# Altium schematic symbol library PROC154E3_SCH_Library.SchLib: 288 symbols (part 3 of 3)
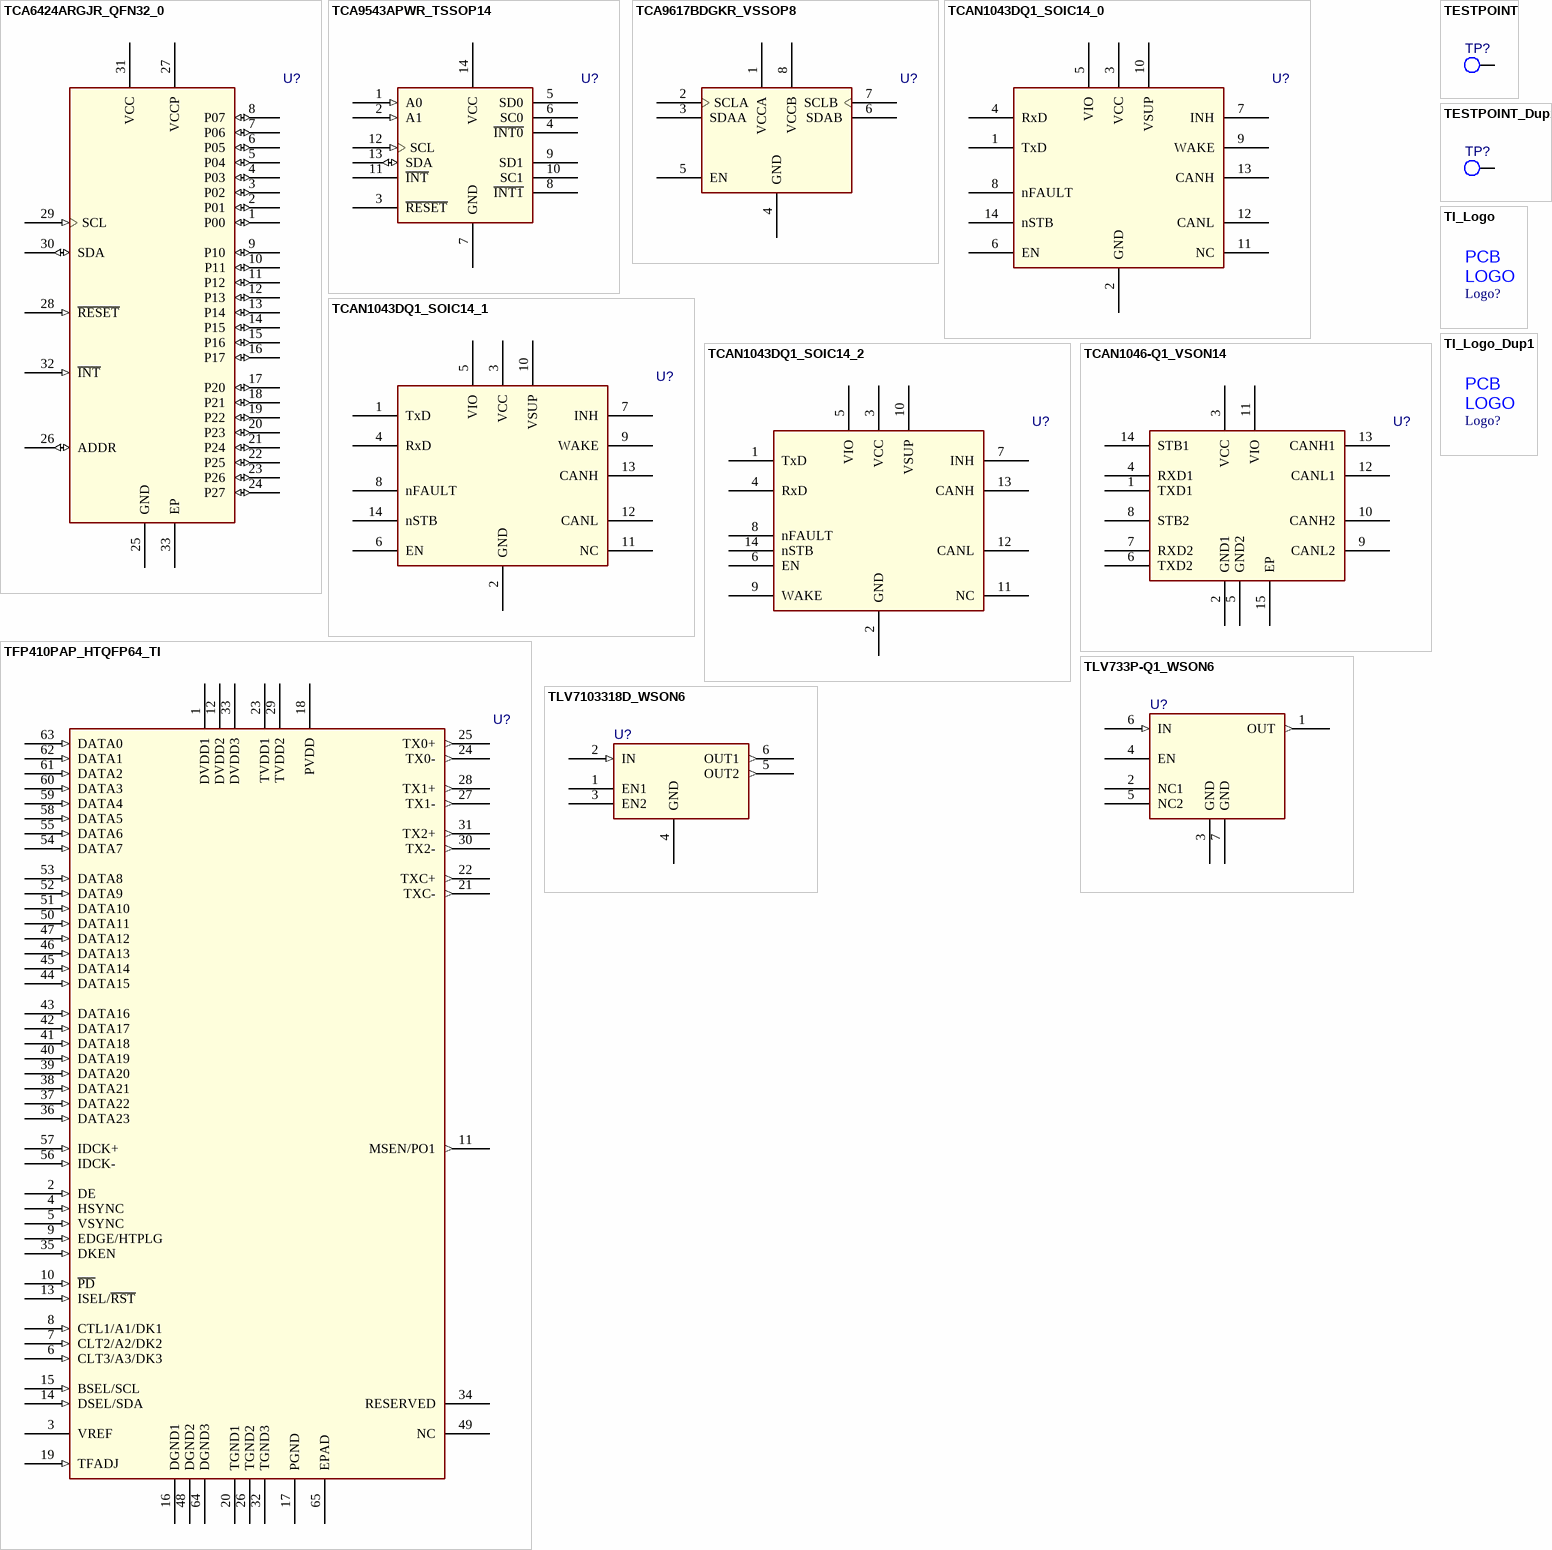
[diagram p26: symbols TCA6424ARGJR_QFN32_0 to TLV7103318D_WSON6]

## TFP410PAP_HTQFP64_TI
designator U?
pins: 1 DVDD1 (power), 2 DE (in), 3 VREF (power), 4 HSYNC (in), 5 VSYNC (in), 6 CLT3/A3/DK3 (in), 7 CLT2/A2/DK2 (in), 8 CTL1/A1/DK1 (in), 9 EDGE/HTPLG (in), 10 ~{PD} (in), 11 MSEN/PO1 (out), 12 DVDD2 (power), 13 ISEL/~{RST} (in), 14 DSEL/SDA (in), 15 BSEL/SCL (in), 16 DGND1 (power), 17 PGND (power), 18 PVDD (power), 19 TFADJ (in), 20 TGND1 (power), 21 TXC- (out), 22 TXC+ (out), 23 TVDD1 (power), 24 TX0- (out), 25 TX0+ (out), 26 TGND2 (power), 27 TX1- (out), 28 TX1+ (out), 29 TVDD2 (power), 30 TX2- (out), 31 TX2+ (out), 32 TGND3 (power), 33 DVDD3 (power), 34 RESERVED, 35 DKEN (in), 36 DATA23 (in), 37 DATA22 (in), 38 DATA21 (in), 39 DATA20 (in), 40 DATA19 (in), 41 DATA18 (in), 42 DATA17 (in), 43 DATA16 (in), 44 DATA15 (in), 45 DATA14 (in), 46 DATA13 (in), 47 DATA12 (in), 48 DGND2 (power), 49 NC, 50 DATA11 (in), 51 DATA10 (in), 52 DATA9 (in), 53 DATA8 (in), 54 DATA7 (in), 55 DATA6 (in), 56 IDCK- (in), 57 IDCK+ (in), 58 DATA5 (in), 59 DATA4 (in), 60 DATA3 (in), 61 DATA2 (in), 62 DATA1 (in), 63 DATA0 (in), 64 DGND3 (power), 65 EPAD (power)

## TI_Logo
designator Logo?  (value not drawn)
footprint TI_Stacked_Overlay_Small
text: PCB; LOGO

## TI_Logo_Dup1
designator Logo?  (value not drawn)
footprint TI_Stacked_Overlay_Small
text: PCB; LOGO

## TLV733P-Q1_WSON6
designator U?
footprint SON6_25-59_85X85_0-8
pins: 1 OUT (out), 2 NC1, 3 GND (power), 4 EN, 5 NC2, 6 IN (in), 7 GND (power)

## TLV7103318D_WSON6
designator U?
pins: 1 EN1, 2 IN (in), 3 EN2, 4 GND (power), 5 OUT2 (out), 6 OUT1 (out)

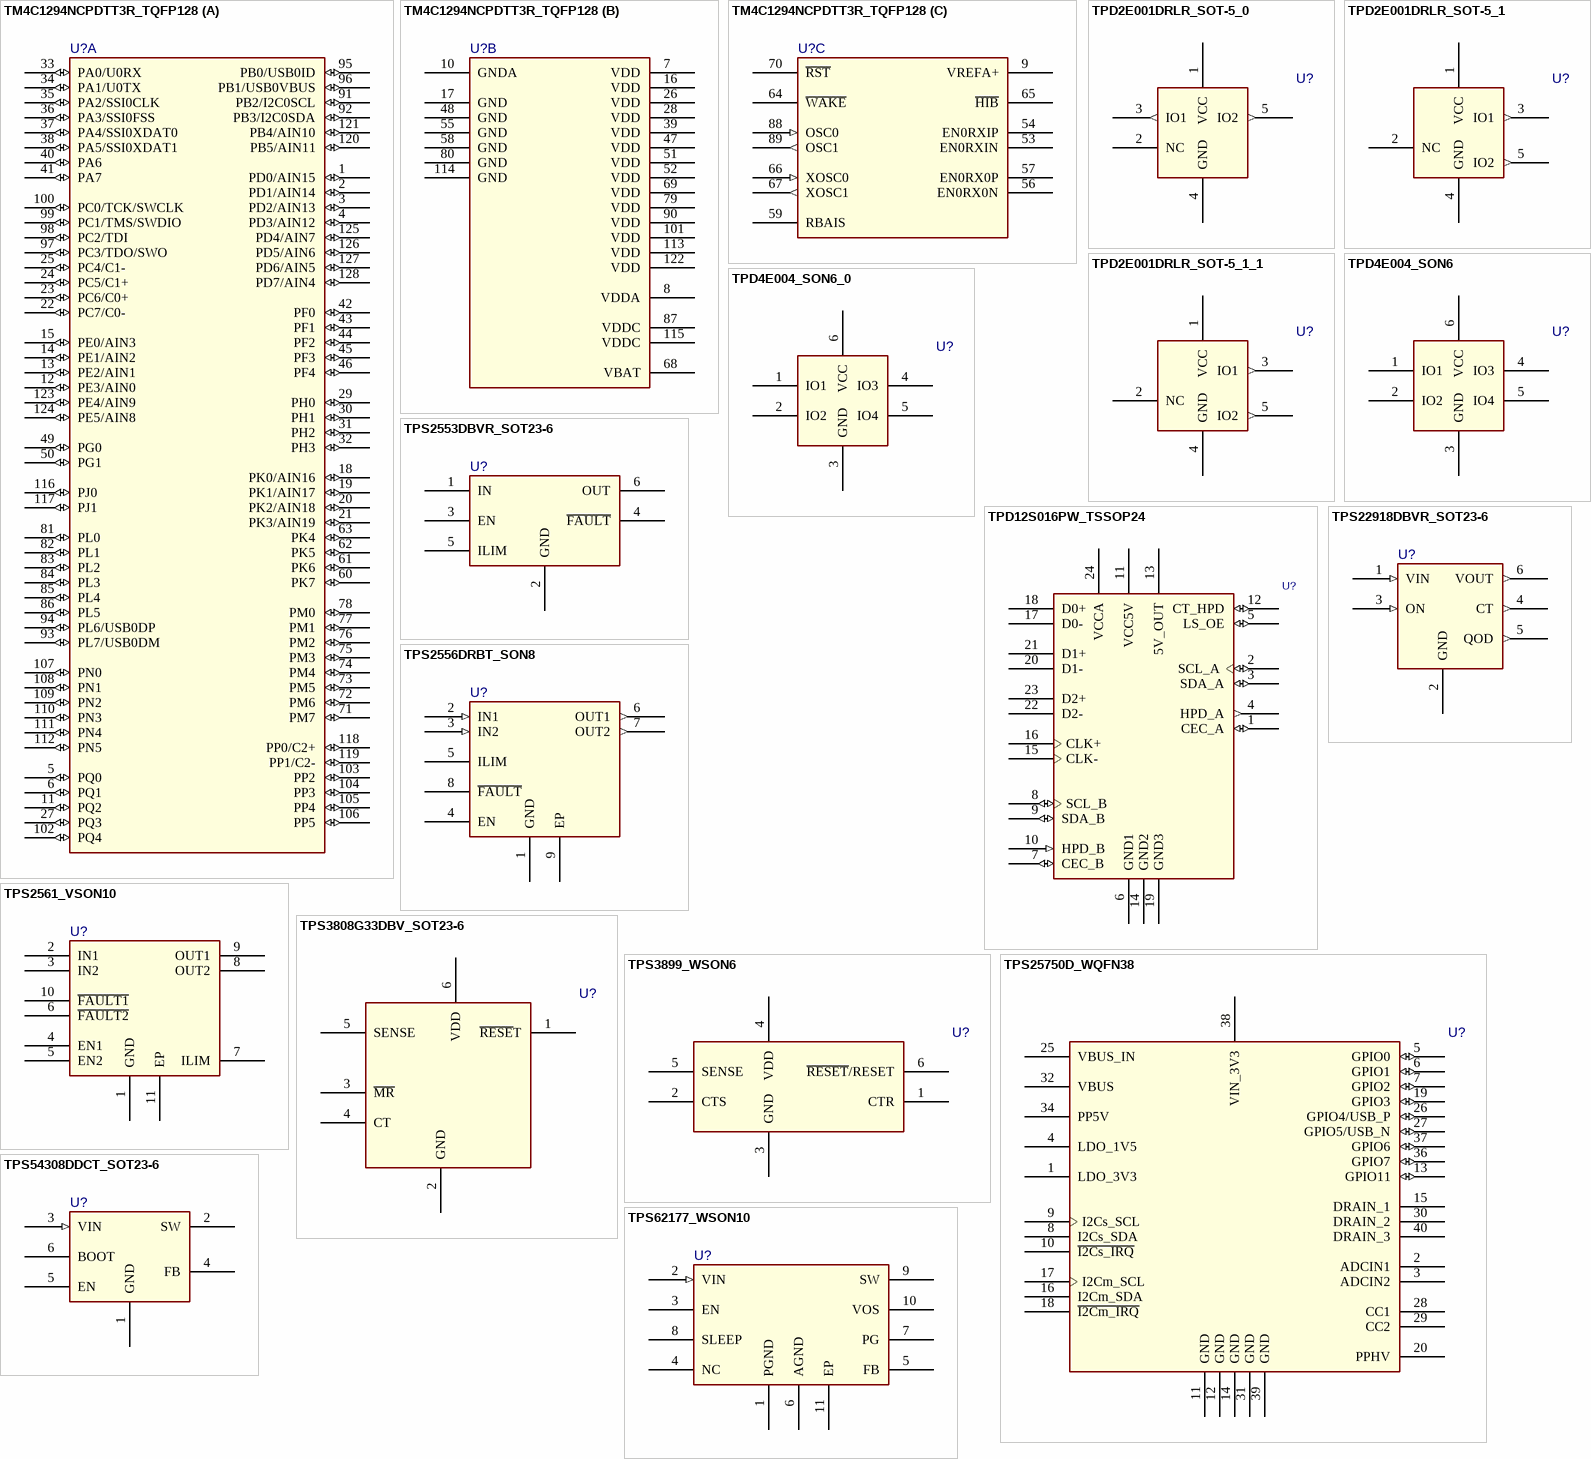
[diagram p22: symbols TM4C1294NCPDTT3R_TQFP128 to TPS62177_WSON10]

## TM4C1294NCPDTT3R_TQFP128
designator U?
part A pins: 1 PD0/AIN15 (io), 2 PD1/AIN14 (io), 3 PD2/AIN13 (io), 4 PD3/AIN12 (io), 5 PQ0 (io), 6 PQ1 (io), 11 PQ2 (io), 12 PE3/AIN0 (io), 13 PE2/AIN1 (io), 14 PE1/AIN2 (io), 15 PE0/AIN3 (io), 18 PK0/AIN16 (io), 19 PK1/AIN17 (io), 20 PK2/AIN18 (io), 21 PK3/AIN19 (io), 22 PC7/C0- (io), 23 PC6/C0+ (io), 24 PC5/C1+ (io), 25 PC4/C1- (io), 27 PQ3 (io), 29 PH0 (io), 30 PH1 (io), 31 PH2 (io), 32 PH3 (io), 33 PA0/U0RX (io), 34 PA1/U0TX (io), 35 PA2/SSI0CLK (io), 36 PA3/SSI0FSS (io), 37 PA4/SSI0XDAT0 (io), 38 PA5/SSI0XDAT1 (io), 40 PA6 (io), 41 PA7 (io), 42 PF0 (io), 43 PF1 (io), 44 PF2 (io), 45 PF3 (io), 46 PF4 (io), 49 PG0 (io), 50 PG1 (io), 60 PK7 (io), 61 PK6 (io), 62 PK5 (io), 63 PK4 (io), 71 PM7 (io), 72 PM6 (io), 73 PM5 (io), 74 PM4 (io), 75 PM3 (io), 76 PM2 (io), 77 PM1 (io), 78 PM0 (io), 81 PL0 (io), 82 PL1 (io), 83 PL2 (io), 84 PL3 (io), 85 PL4 (io), 86 PL5 (io), 91 PB2/I2C0SCL (io), 92 PB3/I2C0SDA (io), 93 PL7/USB0DM (io), 94 PL6/USB0DP (io), 95 PB0/USB0ID (io), 96 PB1/USB0VBUS (io), 97 PC3/TDO/SWO (io), 98 PC2/TDI (io), 99 PC1/TMS/SWDIO (io), 100 PC0/TCK/SWCLK (io), 102 PQ4 (io), 103 PP2 (io), 104 PP3 (io), 105 PP4 (io), 106 PP5 (io), 107 PN0 (io), 108 PN1 (io), 109 PN2 (io), 110 PN3 (io), 111 PN4 (io), 112 PN5 (io), 116 PJ0 (io), 117 PJ1 (io), 118 PP0/C2+ (io), 119 PP1/C2- (io), 120 PB5/AIN11 (io), 121 PB4/AIN10 (io), 123 PE4/AIN9 (io), 124 PE5/AIN8 (io), 125 PD4/AIN7 (io), 126 PD5/AIN6 (io), 127 PD6/AIN5 (io), 128 PD7/AIN4 (io)
part B pins: 7 VDD (power), 8 VDDA (power), 10 GNDA (power), 16 VDD (power), 17 GND (power), 26 VDD (power), 28 VDD (power), 39 VDD (power), 47 VDD (power), 48 GND (power), 51 VDD (power), 52 VDD (power), 55 GND (power), 58 GND (power), 68 VBAT (power), 69 VDD (power), 79 VDD (power), 80 GND (power), 87 VDDC (power), 90 VDD (power), 101 VDD (power), 113 VDD (power), 114 GND (power), 115 VDDC (power), 122 VDD (power)
part C pins: 9 VREFA+, 53 EN0RXIN, 54 EN0RXIP, 56 EN0RX0N, 57 EN0RX0P, 59 RBAIS, 64 ~{WAKE}, 65 ~{HIB}, 66 XOSC0 (in), 67 XOSC1 (out), 70 ~{RST}, 88 OSC0 (in), 89 OSC1 (out)

## TPD2E001DRLR_SOT-5_0
designator U?
pins: 1 VCC (power), 2 NC, 3 IO1 (out), 4 GND, 5 IO2 (out)

## TPD2E001DRLR_SOT-5_1
designator U?
pins: 1 VCC, 2 NC, 3 IO1 (out), 4 GND, 5 IO2 (out)

## TPD2E001DRLR_SOT-5_1_1
designator U?
pins: 1 VCC, 2 NC, 3 IO1 (out), 4 GND, 5 IO2 (out)

## TPD4E004_SON6
designator U?
pins: 1 IO1, 2 IO2, 3 GND (power), 4 IO3, 5 IO4, 6 VCC (power)

## TPD4E004_SON6_0
designator U?
pins: 1 IO1, 2 IO2, 3 GND (power), 4 IO3, 5 IO4, 6 VCC

## TPD12S016PW_TSSOP24
designator U?
Manufacturer: Texas Instruments; OriginalSymbolOrigin: (0,0); TN: 111-1002513; P/N: TPD12S015
pins: 1 CEC_A (io), 2 SCL_A (io), 3 SDA_A (io), 4 HPD_A (out), 5 LS_OE (io), 6 GND1 (power), 7 CEC_B (io), 8 SCL_B (io), 9 SDA_B (io), 10 HPD_B (in), 11 VCC5V (power), 12 CT_HPD (io), 13 5V_OUT (power), 14 GND2 (power), 15 CLK-, 16 CLK+, 17 D0-, 18 D0+, 19 GND3 (power), 20 D1-, 21 D1+, 22 D2-, 23 D2+, 24 VCCA (power)

## TPS2553DBVR_SOT23-6
designator U?
pins: 1 IN, 2 GND (power), 3 EN, 4 ~{FAULT}, 5 ILIM, 6 OUT

## TPS2556DRBT_SON8
designator U?
pins: 1 GND (power), 2 IN1 (in), 3 IN2 (in), 4 EN, 5 ILIM, 6 OUT1 (out), 7 OUT2 (out), 8 ~{FAULT}, 9 EP (power)

## TPS2561_VSON10
designator U?
pins: 1 GND (power), 2 IN1, 3 IN2, 4 EN1, 5 EN2, 6 ~{FAULT2}, 7 ILIM, 8 OUT2, 9 OUT1, 10 ~{FAULT1}, 11 EP (power)

## TPS3808G33DBV_SOT23-6
designator U?
pins: 1 ~{RESE}T, 2 GND (power), 3 ~{MR}, 4 CT, 5 SENSE, 6 VDD (power)

## TPS3899_WSON6
designator U?
pins: 1 CTR, 2 CTS, 3 GND (power), 4 VDD (power), 5 SENSE, 6 ~{RESET}/RESET

## TPS22918DBVR_SOT23-6
designator U?
pins: 1 VIN (in), 2 GND (power), 3 ON (in), 4 CT (out), 5 QOD (out), 6 VOUT (out)

## TPS25750D_WQFN38
designator U?
pins: 1 LDO_3V3, 2 ADCIN1, 3 ADCIN2, 4 LDO_1V5, 5 GPIO0 (io), 6 GPIO1 (io), 7 GPIO2 (io), 8 I2Cs_SDA, 9 I2Cs_SCL, 10 ~{I2Cs_IRQ}, 11 GND (power), 12 GND (power), 13 GPIO11 (io), 14 GND (power), 15 DRAIN_1, 16 I2Cm_SDA, 17 I2Cm_SCL, 18 ~{I2Cm_IRQ}, 19 GPIO3 (io), 20 PPHV, 25 VBUS_IN, 26 GPIO4/USB_P (io), 27 GPIO5/USB_N (io), 28 CC1, 29 CC2, 30 DRAIN_2, 31 GND (power), 32 VBUS, 34 PP5V, 36 GPIO7 (io), 37 GPIO6 (io), 38 VIN_3V3 (power), 39 GND (power), 40 DRAIN_3

## TPS54308DDCT_SOT23-6
designator U?
pins: 1 GND (power), 2 SW, 3 VIN (in), 4 FB, 5 EN, 6 BOOT

## TPS62177_WSON10
designator U?
pins: 1 PGND (power), 2 VIN (in), 3 EN, 4 NC, 5 FB, 6 AGND (power), 7 PG, 8 SLEEP, 9 SW, 10 VOS, 11 EP (power)

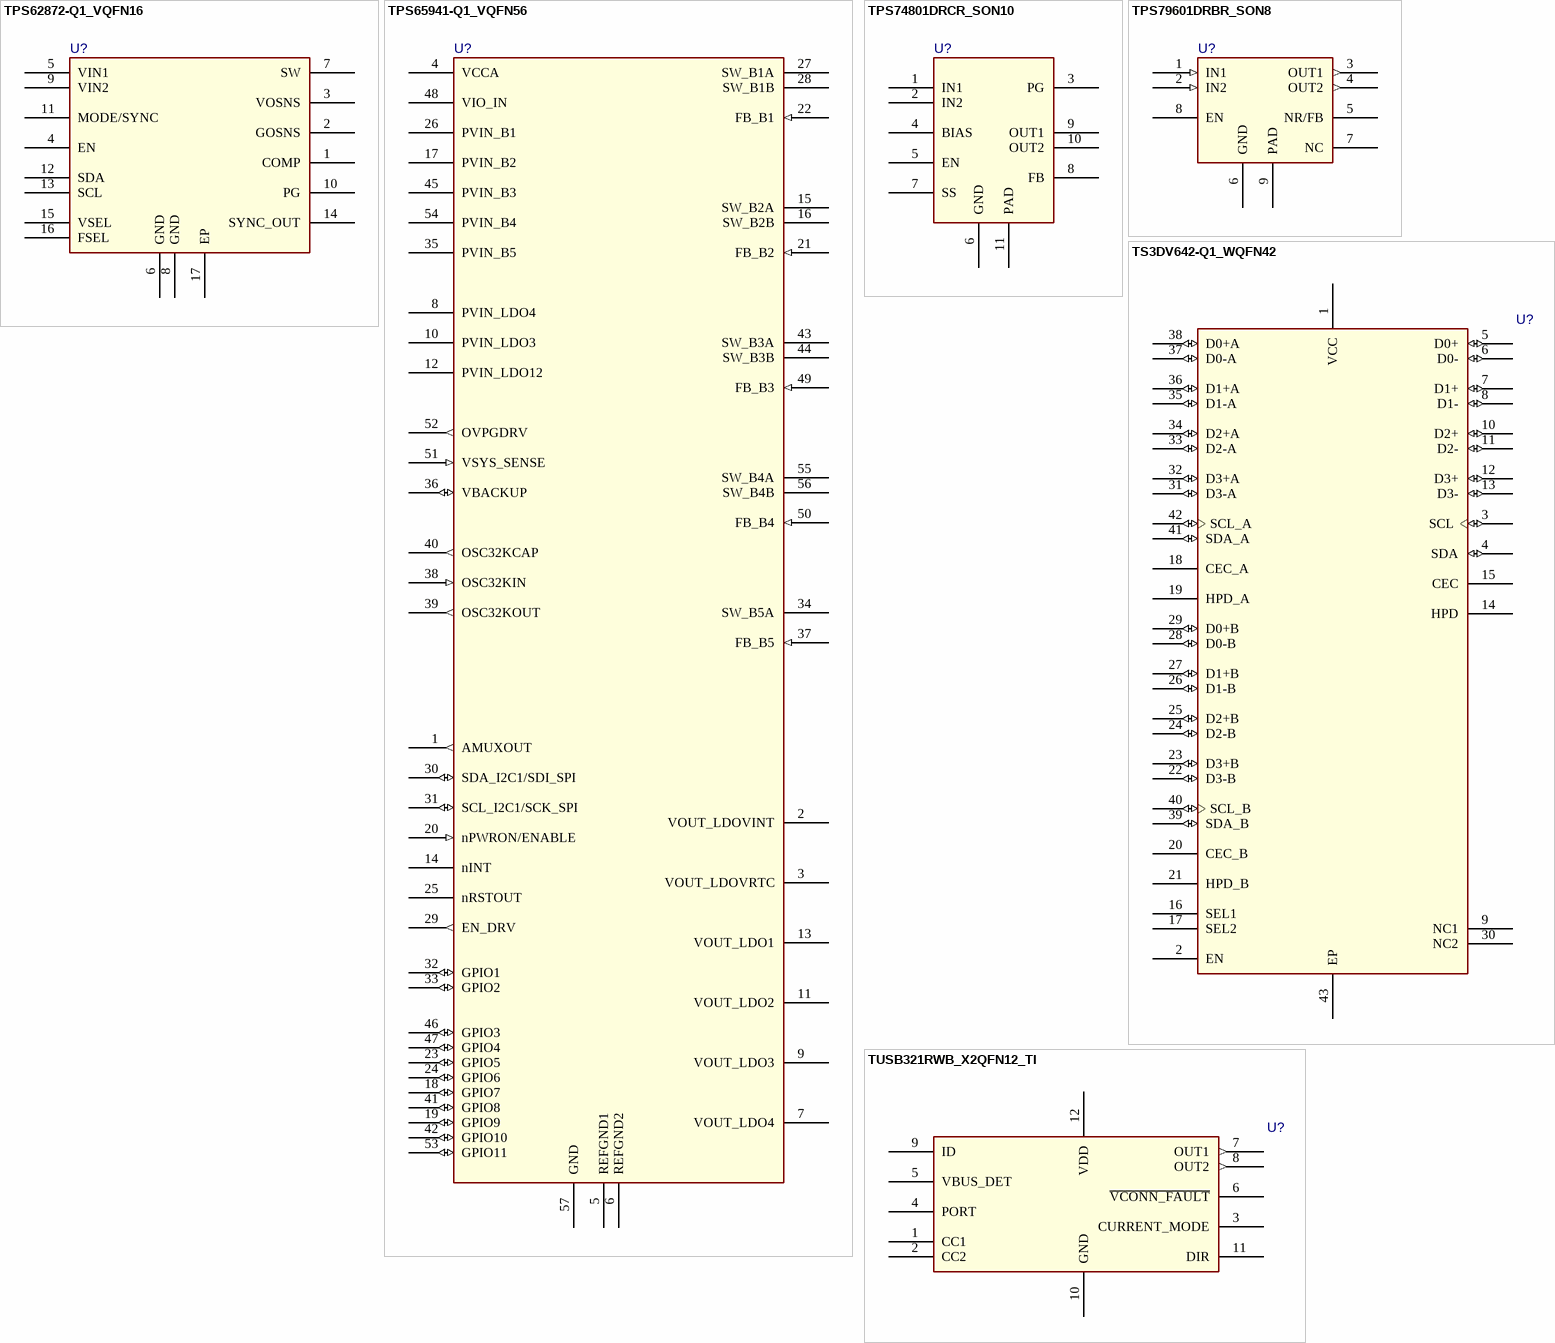
[diagram p23: symbols TPS62872-Q1_VQFN16 to TUSB321RWB_X2QFN12_TI]

## TPS62872-Q1_VQFN16
designator U?
pins: 1 COMP, 2 GOSNS, 3 VOSNS, 4 EN, 5 VIN1, 6 GND (power), 7 SW, 8 GND (power), 9 VIN2, 10 PG, 11 MODE/SYNC, 12 SDA, 13 SCL, 14 SYNC_OUT, 15 VSEL, 16 FSEL, 17 EP (power)

## TPS65941-Q1_VQFN56
designator U?
footprint RVJ0056A
pins: 1 AMUXOUT (out), 2 VOUT_LDOVINT (power), 3 VOUT_LDOVRTC (power), 4 VCCA (power), 5 REFGND1 (power), 6 REFGND2 (power), 7 VOUT_LDO4 (power), 8 PVIN_LDO4 (power), 9 VOUT_LDO3 (power), 10 PVIN_LDO3 (power), 11 VOUT_LDO2 (power), 12 PVIN_LDO12 (power), 13 VOUT_LDO1 (power), 14 nINT (oc), 15 SW_B2A (power), 16 SW_B2B (power), 17 PVIN_B2 (power), 18 GPIO7 (io), 19 GPIO9 (io), 20 nPWRON/ENABLE (in), 21 FB_B2 (in), 22 FB_B1 (in), 23 GPIO5 (io), 24 GPIO6 (io), 25 nRSTOUT (oc), 26 PVIN_B1 (power), 27 SW_B1A (power), 28 SW_B1B (power), 29 EN_DRV (out), 30 SDA_I2C1/SDI_SPI (io), 31 SCL_I2C1/SCK_SPI (io), 32 GPIO1 (io), 33 GPIO2 (io), 34 SW_B5A (power), 35 PVIN_B5 (power), 36 VBACKUP (io), 37 FB_B5 (in), 38 OSC32KIN (in), 39 OSC32KOUT (out), 40 OSC32KCAP (out), 41 GPIO8 (io), 42 GPIO10 (io), 43 SW_B3A (power), 44 SW_B3B (power), 45 PVIN_B3 (power), 46 GPIO3 (io), 47 GPIO4 (io), 48 VIO_IN (power), 49 FB_B3 (in), 50 FB_B4 (in), 51 VSYS_SENSE (in), 52 OVPGDRV (out), 53 GPIO11 (io), 54 PVIN_B4 (power), 55 SW_B4A (power), 56 SW_B4B (power), 57 GND (power)

## TPS74801DRCR_SON10
designator U?
pins: 1 IN1, 2 IN2, 3 PG, 4 BIAS, 5 EN, 6 GND (power), 7 SS, 8 FB, 9 OUT1, 10 OUT2, 11 PAD (power)

## TPS79601DRBR_SON8
designator U?
pins: 1 IN1 (in), 2 IN2 (in), 3 OUT1 (out), 4 OUT2 (out), 5 NR/FB, 6 GND (power), 7 NC, 8 EN, 9 PAD (power)

## TS3DV642-Q1_WQFN42
designator U?
pins: 1 VCC (power), 2 EN, 3 SCL (io), 4 SDA (io), 5 D0+ (io), 6 D0- (io), 7 D1+ (io), 8 D1- (io), 9 NC1, 10 D2+ (io), 11 D2- (io), 12 D3+ (io), 13 D3- (io), 14 HPD, 15 CEC, 16 SEL1, 17 SEL2, 18 CEC_A, 19 HPD_A, 20 CEC_B, 21 HPD_B, 22 D3-B (io), 23 D3+B (io), 24 D2-B (io), 25 D2+B (io), 26 D1-B (io), 27 D1+B (io), 28 D0-B (io), 29 D0+B (io), 30 NC2, 31 D3-A (io), 32 D3+A (io), 33 D2-A (io), 34 D2+A (io), 35 D1-A (io), 36 D1+A (io), 37 D0-A (io), 38 D0+A (io), 39 SDA_B (io), 40 SCL_B (io), 41 SDA_A (io), 42 SCL_A (io), 43 EP (power)

## TUSB321RWB_X2QFN12_TI
designator U?
pins: 1 CC1, 2 CC2, 3 CURRENT_MODE, 4 PORT, 5 VBUS_DET, 6 ~{VCONN_FAULT}, 7 OUT1 (out), 8 OUT2 (out), 9 ID, 10 GND (power), 11 DIR, 12 VDD (power)

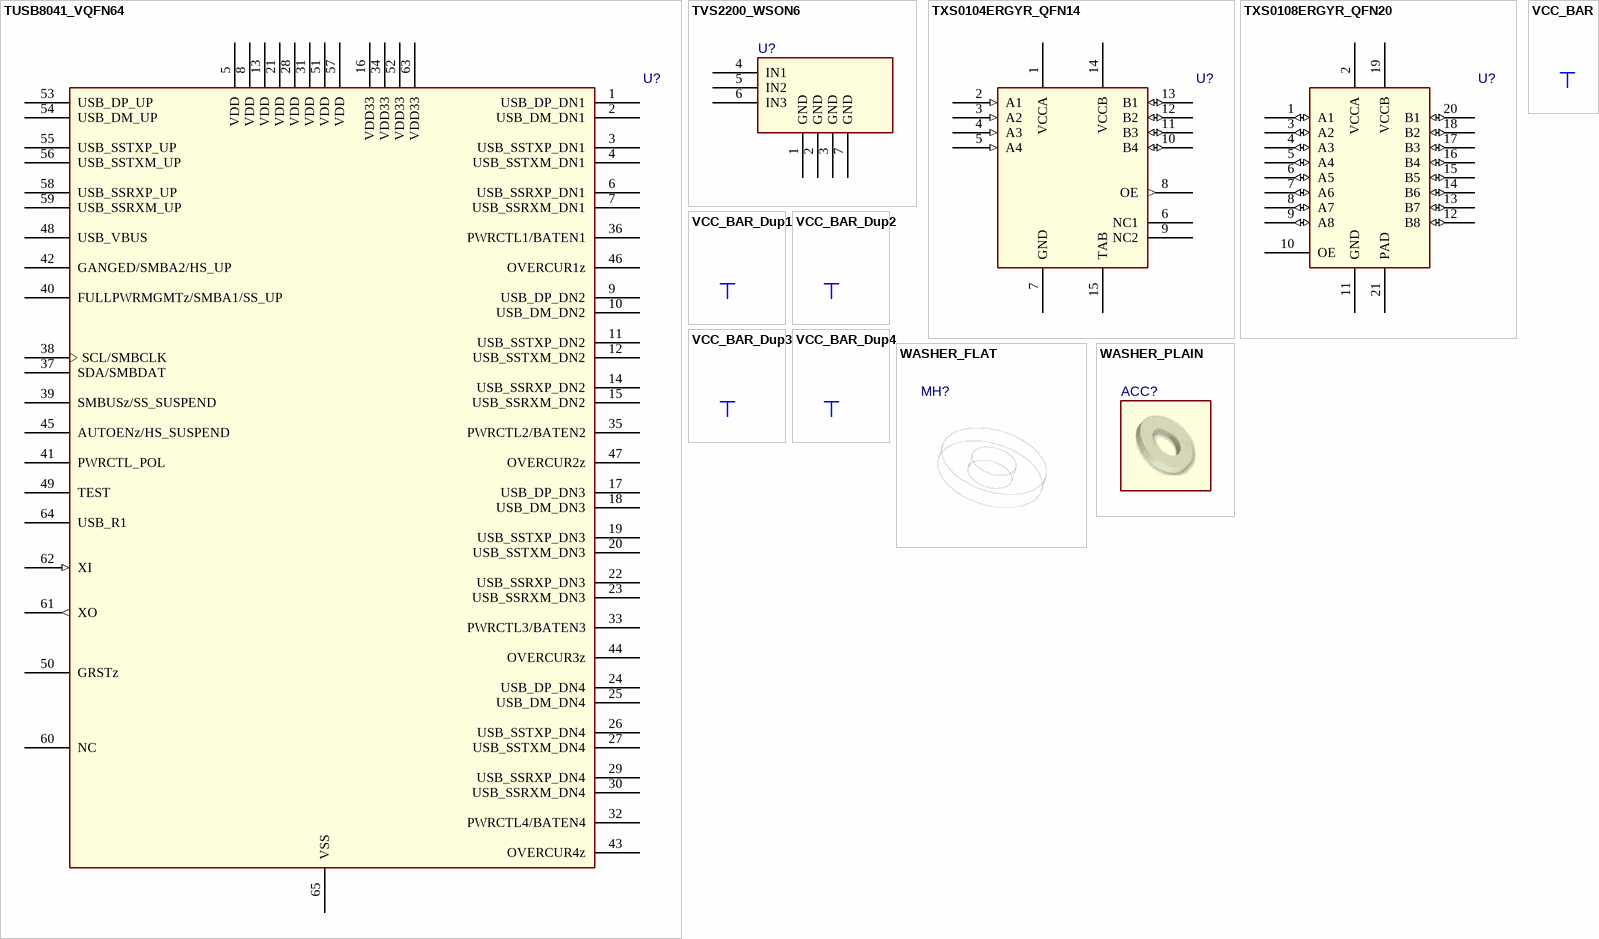
[diagram p24: symbols TUSB8041_VQFN64 to WASHER_PLAIN]

## TUSB8041_VQFN64
designator U?
pins: 1 USB_DP_DN1, 2 USB_DM_DN1, 3 USB_SSTXP_DN1, 4 USB_SSTXM_DN1, 5 VDD (power), 6 USB_SSRXP_DN1, 7 USB_SSRXM_DN1, 8 VDD (power), 9 USB_DP_DN2, 10 USB_DM_DN2, 11 USB_SSTXP_DN2, 12 USB_SSTXM_DN2, 13 VDD (power), 14 USB_SSRXP_DN2, 15 USB_SSRXM_DN2, 16 VDD33 (power), 17 USB_DP_DN3, 18 USB_DM_DN3, 19 USB_SSTXP_DN3, 20 USB_SSTXM_DN3, 21 VDD (power), 22 USB_SSRXP_DN3, 23 USB_SSRXM_DN3, 24 USB_DP_DN4, 25 USB_DM_DN4, 26 USB_SSTXP_DN4, 27 USB_SSTXM_DN4, 28 VDD (power), 29 USB_SSRXP_DN4, 30 USB_SSRXM_DN4, 31 VDD (power), 32 PWRCTL4/BATEN4, 33 PWRCTL3/BATEN3, 34 VDD33 (power), 35 PWRCTL2/BATEN2, 36 PWRCTL1/BATEN1, 37 SDA/SMBDAT, 38 SCL/SMBCLK, 39 SMBUSz/SS_SUSPEND, 40 FULLPWRMGMTz/SMBA1/SS_UP, 41 PWRCTL_POL, 42 GANGED/SMBA2/HS_UP, 43 OVERCUR4z, 44 OVERCUR3z, 45 AUTOENz/HS_SUSPEND, 46 OVERCUR1z, 47 OVERCUR2z, 48 USB_VBUS, 49 TEST, 50 GRSTz, 51 VDD (power), 52 VDD33 (power), 53 USB_DP_UP, 54 USB_DM_UP, 55 USB_SSTXP_UP, 56 USB_SSTXM_UP, 57 VDD (power), 58 USB_SSRXP_UP, 59 USB_SSRXM_UP, 60 NC, 61 XO (out), 62 XI (in), 63 VDD33 (power), 64 USB_R1, 65 VSS (power)

## TVS2200_WSON6
designator U?
pins: 1 GND (power), 2 GND (power), 3 GND (power), 4 IN1, 5 IN2, 6 IN3, 7 GND (power)

## TXS0104ERGYR_QFN14
designator U?
pins: 1 VCCA (power), 2 A1 (in), 3 A2 (in), 4 A3 (in), 5 A4 (in), 6 NC1, 7 GND (power), 8 OE (out), 9 NC2, 10 B4 (io), 11 B3 (io), 12 B2 (io), 13 B1 (io), 14 VCCB (power), 15 TAB (power)

## TXS0108ERGYR_QFN20
designator U?
pins: 1 A1 (io), 2 VCCA (power), 3 A2 (io), 4 A3 (io), 5 A4 (io), 6 A5 (io), 7 A6 (io), 8 A7 (io), 9 A8 (io), 10 OE, 11 GND (power), 12 B8 (io), 13 B7 (io), 14 B6 (io), 15 B5 (io), 16 B4 (io), 17 B3 (io), 18 B2 (io), 19 VCCB (power), 20 B1 (io), 21 PAD (power)

## VCC_BAR
designator *  (value not drawn)  (graphical)
pins: $PIN0 (power) hidden to $PIN0

## VCC_BAR_Dup1
designator *  (value not drawn)  (graphical)
pins: $PIN0 (power) hidden to $PIN0

## VCC_BAR_Dup2
designator *  (value not drawn)  (graphical)
pins: $PIN0 (power) hidden to $PIN0

## VCC_BAR_Dup3
designator *  (value not drawn)  (graphical)
pins: $PIN0 (power) hidden to $PIN0

## VCC_BAR_Dup4
designator *  (value not drawn)  (graphical)
pins: $PIN0 (power) hidden to $PIN0

## WASHER_FLAT
designator MH?

## WASHER_PLAIN
designator ACC?